# Altium schematic symbol library passives.SchLib: 7 symbols
Pins are listed as number, name and electrical type; pins without a type are passive.

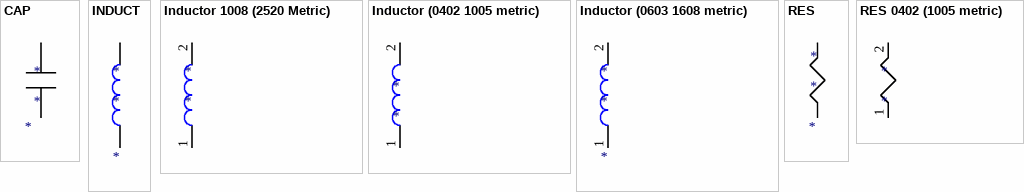
[diagram p0: symbols CAP to RES 0402 (1005 metric)]

## CAP
designator *
value: *
footprint Cap 0603 (1608 metric)
pins: 1, 2

## INDUCT
designator *
value: *
footprint INDUCT 0402 (1005 metric)
footprint INDUCTOR 0603 (1608 Metric)
footprint Inductor 1008 (2520 Metric)
pins: 1, 2

## Inductor 1008 (2520 Metric)
designator *
footprint Inductor 1008 (2520 Metric)
pins: 1, 2

## Inductor (0402 1005 metric)
designator *
footprint RES_0402(1005metric)
pins: 1, 2

## Inductor (0603 1608 metric)
designator *
value: *
footprint INDUCTOR 0603 (1608 Metric)
pins: 1, 2

## RES
designator *
value: *
footprint Res 0603 (1608 metric)
footprint RES_0402(1005metric)
pins: 1, 2

## RES 0402 (1005 metric)
designator *
footprint RES_0402(1005metric)
pins: 1, 2